# Altium footprint library solder pad.PcbLib: 1 footprints
Each footprint in its own frame and in the unit in brackets; x right, y up, seen from the top. Pads: shape width x height; smd on the part's side, far side on the other; paste and mask are expansions set on the pad; w line width, h text height; cw(c..) or ccw(c..) is an arc to the next point about the centre after c.
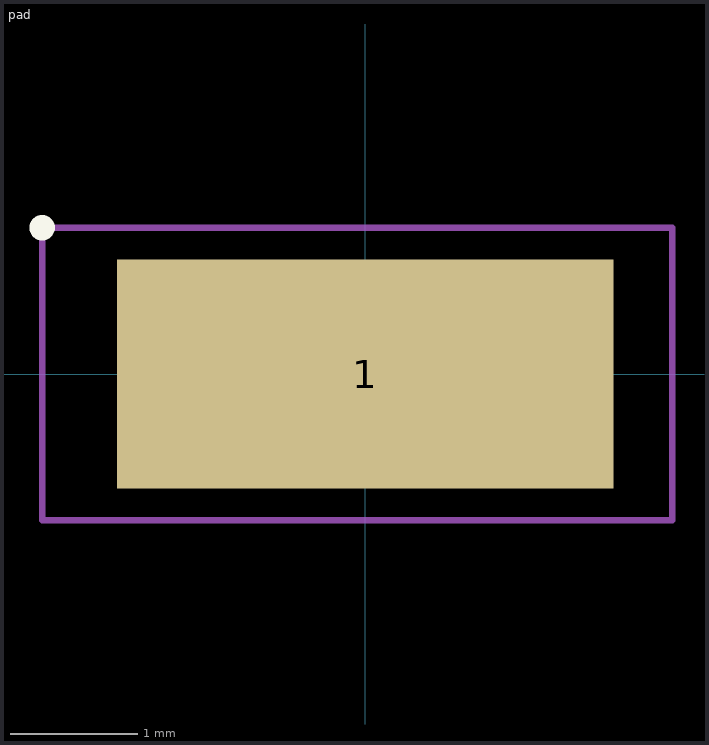
[diagram p0: the footprint, top view; thin cyan lines are the x and y axes]

## pad [mm] "solder pad"
height 0.6
pads (1):
  rect 3.9x1.8 smd: 1(0,0)
Top Overlay:
  circle w0.1: c-2.54,1.15 r0.05
Mechanical 13:
  lines w0.1: -0.55,-0.3 -0.55,0.3 0.55,0.3 0.55,-0.3 -0.55,-0.3
Mechanical 15:
  lines w0.05: -2.54,-1.15 2.413,-1.15 2.413,1.15 -2.54,1.15 -2.54,-1.15
  lines w0.1: -0.3,0 0.3,0 ; 0,-0.3 0,0.3